# Altium schematic symbol library DMN3404L-7.Schlib: 1 symbol
Pins are listed as number, name and electrical type; pins without a type are passive.

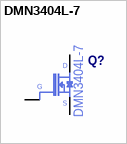
[diagram p0: symbol DMN3404L-7]

## DMN3404L-7
designator Q?
Manufacturer Part Number: DMN3404L-7
pins: 1 G, 2 S, 3 D